# EAGLE library part INA826SIDRCR (library ICs)
INA826S Precision, 200-µA Supply Current, 3-V to 36-V Supply Instrumentation Amplifier With Rail-to-Rail Output and Shutdown
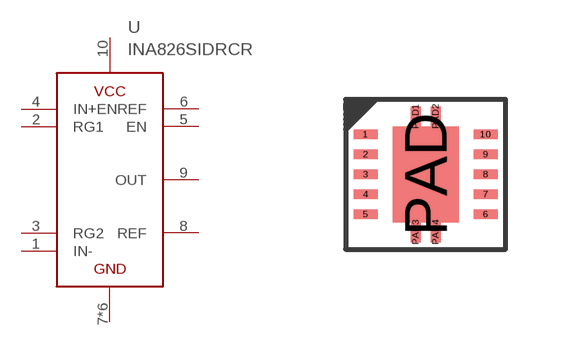
[diagram p214: symbol with the pads of VSON10; footprint VSON10]

Designator prefix U

## INA826SIDRCR (DIGIKEY: 296-50344-1-ND; HEIGHT: 2; PRICE_PER: 2.28; VALUE: INA826)  [VSON10]
1  IN-
2  RG1
3  RG2
4  IN+
5  EN
6  ENREF
7  GND
8  REF
9  OUT
10  VCC
PAD  GND
PAD1  GND
PAD2  GND
PAD3  GND
PAD4  GND

## Footprint VSON10 (pad centres in mm)
smd 0.6 x 0.24: 1 -1.5,1; 2 -1.5,0.5; 3 -1.5,0; 4 -1.5,-0.5; 5 -1.5,-1; 6 1.5,-1; 7 1.5,-0.5; 8 1.5,0; 9 1.5,0.5; 10 1.5,1
smd 1.65 x 2.4: PAD 0,0
smd 0.25 x 0.5: PAD1 -0.25,1.45; PAD2 0.25,1.45; PAD3 -0.25,-1.45; PAD4 0.25,-1.45